# Altium footprint library DPAK STYLE 1.PcbLib: 1 footprints
Each footprint in its own frame and in the unit in brackets; x right, y up, seen from the top. Pads: shape width x height; smd on the part's side, far side on the other; paste and mask are expansions set on the pad; w line width, h text height; cw(c..) or ccw(c..) is an arc to the next point about the centre after c.
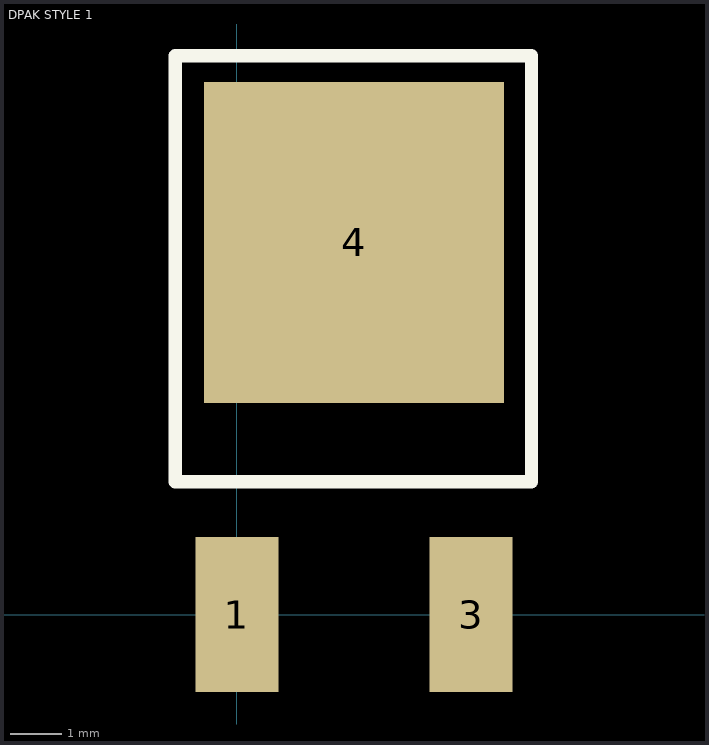
[diagram p0: the footprint, top view; thin cyan lines are the x and y axes]

## DPAK STYLE 1 [mm]
pads (3):
  rect 1.6x3 smd: 1(0,0) 3(4.521,0)
  rect 5.8x6.2 smd: 4(2.261,7.188)
Top Overlay:
  lines w0.254: -1.194,2.565 -1.194,10.795 5.69,10.795 5.69,2.565 -1.194,2.565
3D body: height 2.32, standoff 0.02, extent -1.016,0 5.564,9.7